# EAGLE library part TJA1051 (library serial_interfaces)
1/1 Transceiver Half CAN
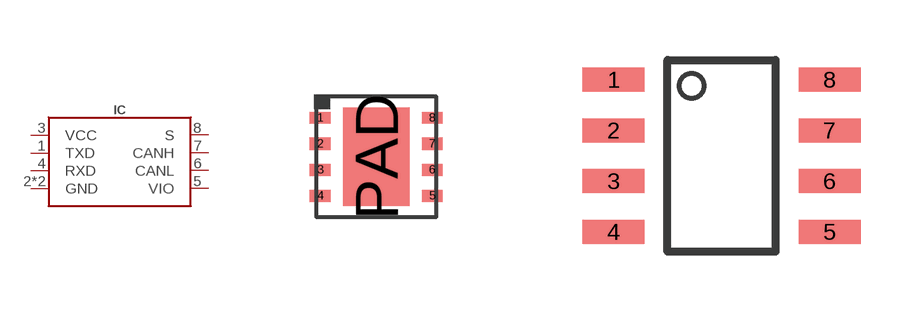
[diagram p15: symbol with the pads of SOT782-1; footprints SOT782-1, SOIC8]

Designator prefix IC

## TJA1051-HVSON8 (AEC-Q: AEC-Q100; DATA_RATE: 5Mbps; DIGIKEY#: 568-TJA1051ATK/3/0ZTR-ND; MANF: NXP USA Inc.; MANF#: TJA1051ATK/3/0Z; VOLTAGE_SUPPLY: 4.5V ~ 5.5V)  [SOT782-1]
1  TXD
2  GND
3  VCC
4  RXD
5  VIO
6  CANL
7  CANH
8  S
PAD  GND

## TJA1051-SO8 (DIGIKEY#: 568-8684-2-ND; LCSC#: C38695; MANF: NXP USA Inc; MANF#: TJA1051T/3,118)  [SOIC8]
1  TXD
2  GND
3  VCC
4  RXD
5  VIO
6  CANL
7  CANH
8  S

## Footprint SOT782-1 (pad centres in mm)
http://www.nxp.com/packages/SOT782-1
smd 0.525 x 0.3: 1 -1.4,0.975; 2 -1.4,0.325; 3 -1.4,-0.325; 4 -1.4,-0.975; 5 1.4,-0.975; 6 1.4,-0.325; 7 1.4,0.325; 8 1.4,0.975
smd 1.65 x 2.45: PAD 0,0

## Footprint SOIC8 (pad centres in mm)
https://www.ti.com/lit/ds/snvsaq5a/snvsaq5a.pdf?ts=1602424164509
smd 1.55 x 0.6: 1 -2.7,1.905; 2 -2.7,0.635; 3 -2.7,-0.635; 4 -2.7,-1.905; 5 2.7,-1.905; 6 2.7,-0.635; 7 2.7,0.635; 8 2.7,1.905